# EAGLE library part AD620 (library schematic1)
Low Cost, Low Power, Instrumentation Amplifier Source: http://www.analog.com/UploadedFiles/Data_Sheets/37793330023930AD620_e.pdf Check prices <https://pricing.snapeda.com/search/part/AD620/?ref=eda>
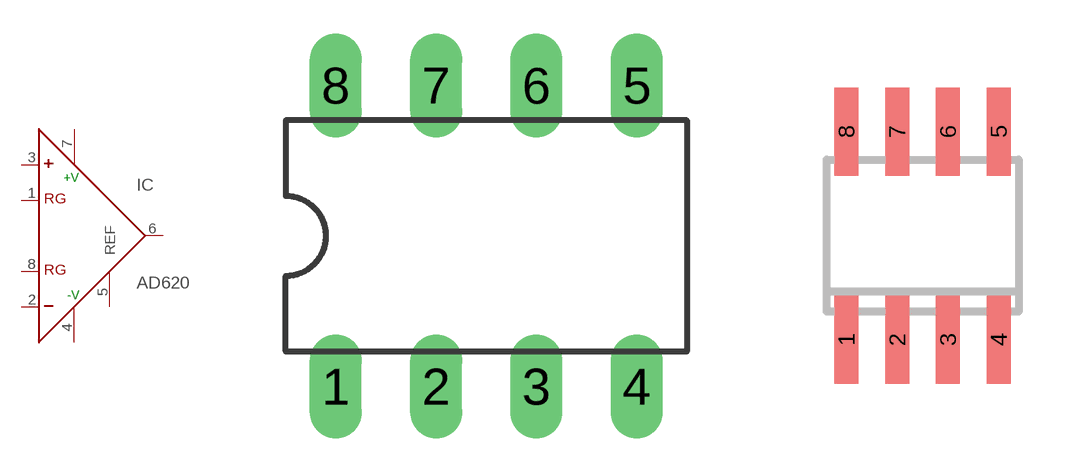
[diagram p2: symbol with the pads of DIL08; footprints DIL08, SO8]

Designator prefix IC

## AD620N (AVAILABILITY: Bad; DESCRIPTION: Instrumentation Amplifier 1 Circuit 8-SOIC; MF: Analog Devices; MP: AD620; PACKAGE: TSSOP-8 Analog Devices; PRICE: None)  [DIL08]
1  RG  pas
2  -  in
3  +  in
4  -V  pwr
5  REF  pas
6  OUT  out
7  +V  pwr
8  RG  pas

## AD620R (AVAILABILITY: Bad; DESCRIPTION: Instrumentation Amplifier 1 Circuit 8-SOIC; MF: Analog Devices; MP: AD620; PACKAGE: TSSOP-8 Analog Devices; PRICE: None)  [SO8]
Pads as for DIL08

## Footprint DIL08 (pad centres in mm)
Dual In Line Package
drill 0.813 long: 1 -3.81,-3.81; 2 -1.27,-3.81; 3 1.27,-3.81; 4 3.81,-3.81; 5 3.81,3.81; 6 1.27,3.81; 7 -1.27,3.81; 8 -3.81,3.81

## Footprint SO8 (pad centres in mm)
8-Lead Small Outline IC (SO-8) Source: http://www.analog.com/UploadedFiles/Data_Sheets/703465986AD8611_2_0.pdf
smd 0.6 x 2.2: 1 -1.905,-2.6; 2 -0.635,-2.6; 3 0.635,-2.6; 4 1.905,-2.6; 5 1.905,2.6; 6 0.635,2.6; 7 -0.635,2.6; 8 -1.905,2.6